# Altium footprint library DO-214AC-SMA.PcbLib: 1 footprints
Each footprint in its own frame and in the unit in brackets; x right, y up, seen from the top. Pads: shape width x height; smd on the part's side, far side on the other; paste and mask are expansions set on the pad; w line width, h text height; cw(c..) or ccw(c..) is an arc to the next point about the centre after c.
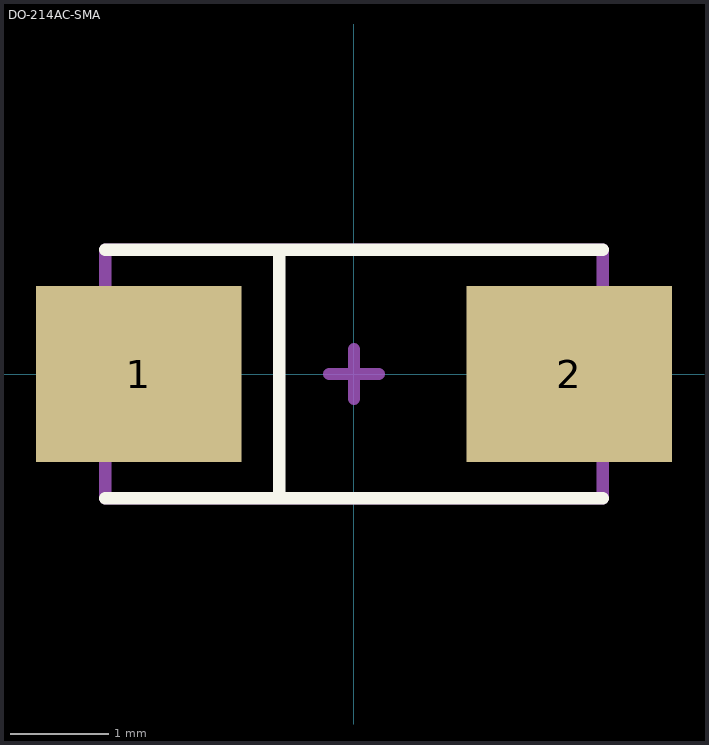
[diagram p0: the footprint, top view; thin cyan lines are the x and y axes]

## DO-214AC-SMA [mm]
pads (2):
  rect 2.1x1.8 smd mask+0.1: 1(-2.2,0) 2(2.2,0)
Top Overlay:
  lines w0.127: -2.54,-1.27 2.54,-1.27 ; -2.54,1.27 2.54,1.27 ; -0.762,-1.27 -0.762,1.27
Mechanical 13:
  lines w0.127: -2.54,-1.27 -2.54,1.27 2.54,1.27 2.54,-1.27 -2.54,-1.27
Mechanical 15:
  lines w0.127: -0.254,0 0,0 ; 0,-0.254 0,0 ; 0,0.254 0,0 ; 0.254,0 0,0
3D body "SMA.step": height 2.2, standoff 0, extent -2.598,-1.302 2.598,1.302